# Altium footprint library fszhang.PcbLib: 279 footprints (part 12 of 18)
Each footprint in its own frame and in the unit in brackets; x right, y up, seen from the top. Pads: shape width x height; smd on the part's side, far side on the other; paste and mask are expansions set on the pad; w line width, h text height; cw(c..) or ccw(c..) is an arc to the next point about the centre after c.
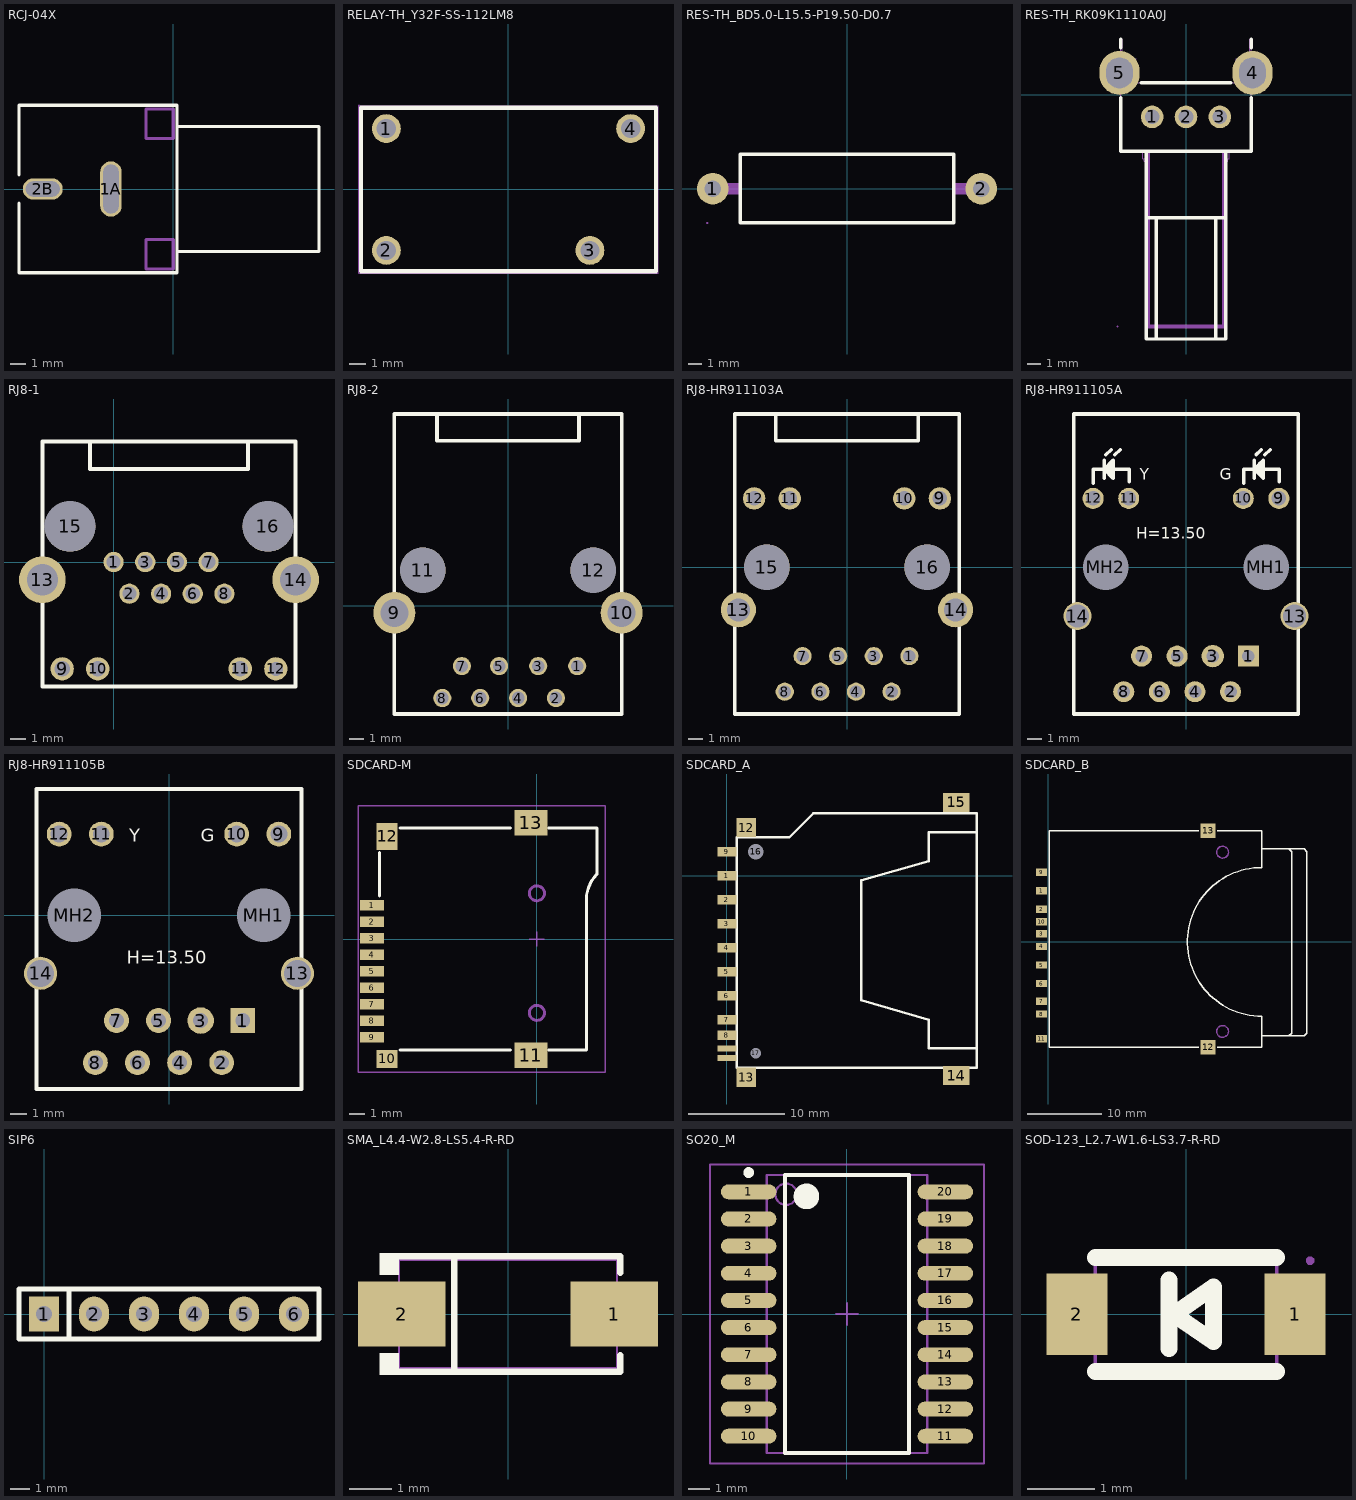
[diagram p11: the footprints below, top view; thin cyan lines are the x and y axes]

## RCJ-04X [mm] "Two Conductor Jack (RCA)"
height 13
pads (2):
  oval 1.4x3.6 hole 1 slot 3.2 at 90 deg: 1A(-4.064,0)
  oval 2.6x1.4 hole 1 slot 2.2 at 0 deg: 2B(-8.509,0)
Top Overlay:
  lines w0.2: -10.057,-0.92 -10.057,-5.461 0.254,-5.461 0.254,5.461 -10.057,5.461 -10.057,0.92 ; 0.254,-4.065 9.5,-4.065 9.5,4.065 0.254,4.065
Mechanical 1:
  lines w0.2: -1.778,-5.207 -1.778,-3.302 0,-3.302 0,-5.207 -1.778,-5.207 ; -1.778,3.302 0,3.302 0,5.207 -1.778,5.207 -1.778,3.302

## RELAY-TH_Y32F-SS-112LM8 [mm]
pads (4):
  round 1.8 hole 1.2 mask+0.051: 1(-7.62,3.8) 2(-7.62,-3.8) 3(5.08,-3.8) 4(7.62,3.8)
Top Overlay:
  lines w0.254: -9.2,-5.1 -9.2,5.1 9.2,5.1 9.2,-5.1 -9.2,-5.1
Mechanical 15:
  region: -9.267,5.227 -9.267,5.252 -9.302,5.287 -9.352,5.287 -9.387,5.252 -9.387,5.227 -9.387,5.202 -9.352,5.167 -9.302,5.167 -9.267,5.202 -9.267,5.227
  region: -7.12,3.8 -7.12,3.899 -7.196,4.083 -7.337,4.224 -7.521,4.3 -7.719,4.3 -7.903,4.224 -8.044,4.083 -8.12,3.899 -8.12,3.8 -8.12,3.701 -8.044,3.517 -7.903,3.376 -7.719,3.3 -7.521,3.3 -7.337,3.376 -7.196,3.517 -7.12,3.701 -7.12,3.8
  region: -7.12,-3.8 -7.12,-3.7 -7.196,-3.517 -7.337,-3.376 -7.521,-3.3 -7.719,-3.3 -7.903,-3.376 -8.044,-3.517 -8.12,-3.7 -8.12,-3.8 -8.12,-3.899 -8.044,-4.083 -7.903,-4.224 -7.719,-4.3 -7.521,-4.3 -7.337,-4.224 -7.196,-4.083 -7.12,-3.899 -7.12,-3.8
  region: 5.58,-3.8 5.58,-3.7 5.504,-3.517 5.363,-3.376 5.179,-3.3 4.981,-3.3 4.797,-3.376 4.656,-3.517 4.58,-3.7 4.58,-3.8 4.58,-3.899 4.656,-4.083 4.797,-4.224 4.981,-4.3 5.179,-4.3 5.363,-4.224 5.504,-4.083 5.58,-3.899 5.58,-3.8
  region: 8.12,3.8 8.12,3.899 8.044,4.083 7.903,4.224 7.719,4.3 7.521,4.3 7.337,4.224 7.196,4.083 7.12,3.899 7.12,3.8 7.12,3.701 7.196,3.517 7.337,3.376 7.521,3.3 7.719,3.3 7.903,3.376 8.044,3.517 8.12,3.701 8.12,3.8
  lines w0.051: -9.327,-5.227 -9.327,5.227 9.327,5.227 9.327,-5.227 -9.327,-5.227

## RES-TH_BD5.0-L15.5-P19.50-D0.7 [mm]
pads (2):
  round 2.3 hole 1.2: 1(-9.75,0) 2(9.75,0)
Top Overlay:
  lines w0.254: -7.75,-2.5 -7.75,2.5 7.75,2.5 7.75,-2.5 -7.75,-2.5
Mechanical 15:
  region: -10.09,-2.5 -10.09,-2.475 -10.125,-2.44 -10.175,-2.44 -10.21,-2.475 -10.21,-2.5 -10.21,-2.525 -10.175,-2.56 -10.125,-2.56 -10.09,-2.525 -10.09,-2.5
  region: 7.64,0.4 7.64,-0.4 10.15,-0.4 10.15,0.4
  region: 10.15,0 10.15,0.08 10.089,0.227 9.977,0.339 9.83,0.4 9.67,0.4 9.523,0.339 9.411,0.227 9.35,0.08 9.35,0 9.35,-0.08 9.411,-0.227 9.523,-0.339 9.67,-0.4 9.83,-0.4 9.977,-0.339 10.089,-0.227 10.15,-0.08 10.15,0
  region: -9.35,0 -9.35,0.08 -9.411,0.227 -9.523,0.339 -9.67,0.4 -9.83,0.4 -9.977,0.339 -10.089,0.227 -10.15,0.08 -10.15,0 -10.15,-0.08 -10.089,-0.227 -9.977,-0.339 -9.83,-0.4 -9.67,-0.4 -9.523,-0.339 -9.411,-0.227 -9.35,-0.08 -9.35,0
  region: -7.64,-0.4 -7.64,0.4 -10.15,0.4 -10.15,-0.4
  lines w0.051: -7.75,-2.5 7.75,-2.5 7.75,2.5 -7.75,2.5 -7.75,-2.5

## RES-TH_RK09K1110A0J [mm]
pads (5):
  round 1.7 hole 1.1: 1(-2.54,-1.65) 2(0,-1.65) 3(2.54,-1.65)
  oval 3x3.3 hole 2 slot 2.3 at 90 deg: 4(5,1.65) 5(-5,1.65)
Top Overlay:
  lines w0.254: -4.9,-4.251 4.084,-4.251 4.9,-4.251 ; -4.9,-4.25 -4.9,-0.228 ; -4.9,3.528 -4.9,4.19 ; -3.376,0.9 3.376,0.9 ; -3,-9.25 3,-9.25 ; -3,-4.25 -3,-18.35 3,-18.35 3,-4.25 ; -2.25,-18.35 -2.25,-9.25 ; 2.25,-18.35 2.25,-9.25 ; 4.9,-4.25 4.9,-0.228 ; 4.9,3.528 4.9,4.2
Mechanical 6:
  region: -2.733,-4.38 -2.733,-17.273 2.743,-17.273 2.743,-4.39 2.743,-4.337 2.817,-4.263 2.923,-4.263 2.997,-4.337 2.997,-4.39 2.997,-17.4 2.997,-17.425 2.978,-17.472 2.942,-17.508 2.895,-17.527 2.87,-17.527 -2.86,-17.527 -2.885,-17.527 -2.932,-17.508 -2.968,-17.472 -2.987,-17.425 -2.987,-17.4 -2.987,-4.38 -2.987,-4.327 -2.913,-4.253 -2.807,-4.253 -2.733,-4.327 -2.733,-4.38
Mechanical 15:
  region: 4.85,2.65 5.15,2.65 5.15,0.65 4.85,0.65
  region: -5.15,2.65 -4.85,2.65 -4.85,0.65 -5.15,0.65
  region: -2.94,-1.5 -2.14,-1.5 -2.14,-1.8 -2.94,-1.8
  region: -0.4,-1.5 0.4,-1.5 0.4,-1.8 -0.4,-1.8
  region: 2.14,-1.5 2.94,-1.5 2.94,-1.8 2.14,-1.8
  region: -5.09,-17.4 -5.09,-17.375 -5.125,-17.34 -5.175,-17.34 -5.21,-17.375 -5.21,-17.4 -5.21,-17.425 -5.175,-17.46 -5.125,-17.46 -5.09,-17.425 -5.09,-17.4
  lines w0.051: -4.9,-4.2 -3.25,-4.2 -3.25,-4.8 -3.15,-4.8 -3.15,-5 -3,-5 -2.99,-17.4 3,-17.4 3,-5 3.15,-5 3.15,-4.8 3.25,-4.8 3.25,-4.2 4.9,-4.2 4.9,4.2 4.8,4.2 4.8,2.7 3.76,2.7 3.76,1.9 3.76,0.9 -3.76,0.9 -3.76,2.69 -3.77,2.7 -4.8,2.7 -4.8,4.2 -4.9,4.2 -4.9,-4.2

## RJ8-1 [mm] "网络"
pads (16):
  round 1.3 hole 0.9: 1(0,0) 2(1.016,-2.032) 3(2.032,0) 4(3.048,-2.032) 5(4.064,0) 6(5.08,-2.032) 7(6.096,0) 8(7.112,-2.032)
  round 1.5 hole 1: 9(-3.302,-6.858) 10(-1.016,-6.858) 11(8.128,-6.858)
  round 1.5 hole 0.9: 12(10.414,-6.858)
  round 3 hole 2: 13(-4.572,-1.143) 14(11.684,-1.143)
  round 3.251 hole 3.251: 15(-2.794,2.286) 16(9.906,2.286)
Top Overlay:
  lines w0.254: -1.524,7.747 -1.524,5.969 8.636,5.969 8.636,7.747 ; -4.572,-8.001 -4.572,-1.143 -4.572,7.747 11.684,7.747 11.684,-1.143 11.684,-8.001 -4.572,-8.001

## RJ8-2 [mm] "网络"
height 10
pads (12):
  round 1.3 hole 0.9: 1(4.953,-4.318) 2(3.429,-6.604) 3(2.159,-4.318) 4(0.72,-6.604) 5(-0.635,-4.318) 6(-1.99,-6.604) 7(-3.302,-4.318) 8(-4.699,-6.604)
  round 3 hole 2: 9(-8.128,-0.508) 10(8.128,-0.508)
  round 3.251 hole 3.251: 11(-6.096,2.54) 12(6.096,2.54)
Top Overlay:
  lines w0.254: -5.08,13.589 -5.08,11.811 5.08,11.811 5.08,13.589 ; -8.128,-7.747 -8.128,-0.889 -8.128,13.716 8.128,13.716 8.128,-0.889 8.128,-7.747 -8.128,-7.747

## RJ8-HR911103A [mm] "网络"
height 10
pads (16):
  round 1.3 hole 0.9: 1(4.45,-6.35) 2(3.18,-8.89) 3(1.91,-6.35) 4(0.64,-8.89) 5(-0.63,-6.35) 6(-1.9,-8.89) 7(-3.17,-6.35) 8(-4.44,-8.89)
  round 1.6 hole 1.02: 9(6.625,4.9) 10(4.085,4.9) 11(-4.085,4.9) 12(-6.625,4.9)
  round 2.5 hole 1.63: 13(-7.745,-3.05) 14(7.745,-3.05)
  round 3.251 hole 3.251: 15(-5.715,0) 16(5.715,0)
Top Overlay:
  lines w0.254: -5.08,10.795 -5.08,9.017 5.08,9.017 5.08,10.795 ; -8,-10.48 8,-10.48 8,10.92 -8,10.92 -8,-10.48

## RJ8-HR911105A [mm]
height 14.8
pads (16):
  rect 1.5x1.5 hole 0.9: 1(4.45,-6.35)
  round 1.5 hole 0.9: 2(3.18,-8.89) 4(0.64,-8.89) 5(-0.63,-6.35) 6(-1.9,-8.89) 7(-3.17,-6.35) 8(-4.44,-8.89)
  round 1.6 hole 0.9: 3(1.91,-6.35)
  round 1.5 hole 1.02: 9(6.625,4.9) 10(4.085,4.9) 11(-4.085,4.9) 12(-6.625,4.9)
  round 2 hole 1.63: 13(7.745,-3.5) 14(-7.745,-3.5)
  round 2.95 hole 3.25 unplated: MH1(5.715,0) MH2(-5.715,0)
Top Overlay:
  lines w0.25: -6.604,5.969 -6.604,6.985 -4.064,6.985 -4.064,6.096 ; -5.842,6.35 -5.842,7.62 ; -5.715,8.001 -5.334,8.382 ; -5.434,6.592 -5.434,7.393 ; -5.08,8.001 -4.699,8.382 ; 4.106,5.969 4.106,6.985 6.646,6.985 6.646,6.096 ; 4.868,6.35 4.868,7.62 ; 4.995,8.001 5.376,8.382 ; 5.276,6.592 5.276,7.393 ; 5.63,8.001 6.011,8.382 ; -8,-10.48 -8,10.92 8,10.92 8,-10.48 -8,-10.48 ; -5.842,6.985 -5.207,7.62 -5.207,6.35 -5.842,6.985 ; 4.868,6.985 5.503,7.62 5.503,6.35 4.868,6.985
  text "G" at 2.413,6.223 h0.8
  text "Y" at -3.302,6.223 h0.8
  text "H=13.50" at -3.556,2.032 h0.8

## RJ8-HR911105B [mm]
height 14.8
pads (16):
  rect 1.5x1.5 hole 0.9: 1(4.45,-6.35)
  round 1.5 hole 0.9: 2(3.18,-8.89) 4(0.64,-8.89) 5(-0.63,-6.35) 6(-1.9,-8.89) 7(-3.17,-6.35) 8(-4.44,-8.89)
  round 1.6 hole 0.9: 3(1.91,-6.35)
  round 1.5 hole 1.02: 9(6.625,4.9) 10(4.085,4.9) 11(-4.085,4.9) 12(-6.625,4.9)
  round 2 hole 1.63: 13(7.745,-3.5) 14(-7.745,-3.5)
  round 2.95 hole 3.25 unplated: MH1(5.715,0) MH2(-5.715,0)
Top Overlay:
  lines w0.25: -8,-10.48 8,-10.48 8,7.62 -8,7.62 -8,-10.48
  text "H=13.50" at -2.54,-2.921 h0.8
  text "Y" at -2.413,4.445 h0.8
  text "G" at 1.905,4.445 h0.8

## SDCARD-M [mm] "TF卡"
height 1.5
pads (13):
  rect 1.6x0.7 smd: 1(-11.008,2.25) 2(-11.008,1.15) 3(-11.008,0.05) 4(-11.008,-1.05) 5(-11.008,-2.15) 6(-11.008,-3.25) 7(-11.008,-4.35) 8(-11.008,-5.45) 9(-11.008,-6.55)
  rect 1.4x1.2 smd: 10(-10,-8.004)
  rect 2.2x1.7 smd: 11(-0.4,-7.75) 13(-0.4,7.75)
  rect 1.4x1.8 smd: 12(-10,6.85)
Top Overlay:
  lines w0.2: -10.5,2.88 -10.5,5.756 ; -9.144,-7.4 -1.778,-7.4 ; -9.144,7.4 -1.778,7.4 ; 0.762,-7.4 3.3,-7.4 3.3,1.016 ; 0.762,7.4 4,7.4 4,4.318 ccw(c5.69,2.628) 3.3,2.628 3.3,0.762
Mechanical 1:
  circle w0.2: c0,3.05 r0.5
  circle w0.2: c0,-4.93 r0.5
Mechanical 15:
  lines w0.1: -0.5,0 0.5,0 ; 0,-0.5 0,0.5 ; -11.938,-8.89 -11.938,8.89 4.572,8.89 4.572,-8.89 -11.938,-8.89

## SDCARD_A [mm] "SD卡不自弹"
pads (17):
  rect 2x1 smd: 1(0,0) 2(0,-2.5) 3(0,-5) 4(0,-7.5) 5(0,-10) 6(0,-12.5) 7(0,-15) 8(0,-16.625) 9(0,2.5)
  rect 2x0.6 smd: 10(0,-19) 11(0,-18)
  rect 2x2 smd: 12(2,5) 13(2,-21)
  rect 2.8x2 smd: 14(23.876,-20.828) 15(23.876,7.62)
  round 1.5 hole 1.6: 16(3,2.5)
  round 1 hole 1.1: 17(3,-18.5)
Top Overlay:
  lines w0.254: 26,-18 21,-18 21,-15 14,-13 14,-0.5 21,1.5 21,4.5 26,4.5 ; 1,-20 26,-20 26,6.5 9,6.5 6.5,4 1,4 1,-20

## SDCARD_B [mm] "SD卡自弹"
pads (13):
  rect 1.5x1 smd: 1(-0.889,6.88) 2(-0.889,4.38) 3(-0.889,1.08) 4(-0.889,-0.63) 5(-0.889,-3.13) 6(-0.889,-5.63) 7(-0.889,-8.05) 8(-0.889,-9.75) 9(-0.889,9.38) 10(-0.889,2.73) 11(-0.889,-13.1)
  rect 2x2 smd: 12(21.59,-14.224) 13(21.59,14.986)
Top Overlay:
  lines w0.2: 20.32,-14.224 0.127,-14.224 0.127,0 0.127,14.986 20.32,14.986 ; 22.86,-14.224 28.829,-14.224 28.829,-10.033 cw(c28.829,0) 28.829,10.033 28.829,14.986 22.86,14.986 ; 28.829,-12.7 32.893,-12.7 34.544,-12.7 34.925,-12.319 34.925,12.192 34.544,12.573 32.893,12.573 28.829,12.573 ; 32.512,-12.7 32.893,-12.319 32.893,12.192 32.512,12.573
Mechanical 1:
  circle w0.2: c23.55,-12.1 r0.8
  circle w0.2: c23.55,12.1 r0.8

## SIP6 [mil]
pads (6):
  rect 60x70 hole 32: 1(0,0)
  oval 60x70 hole 32: 2(100,0) 3(200,0) 4(300,0) 5(400,0) 6(500,0)
Top Overlay:
  lines w10: 50,-50 50,50 ; -50,-50 550,-50 550,50 -50,50 -50,-50

## SMA_L4.4-W2.8-LS5.4-R-RD [mm]
pads (2):
  rect 2.063x1.539 smd: 1(2.504,0) 2(-2.504,0)
Top Overlay:
  region: -2.57,-1.432 -2.57,-0.922 -3.027,-0.922 -3.027,-1.432
  region: -2.57,1.432 -2.57,0.922 -3.027,0.922 -3.027,1.432
  lines w0.152: -2.646,-1.356 2.646,-1.356 2.646,-0.973 ; -2.646,1.356 2.646,1.356 2.646,0.973 ; -1.269,-1.356 -1.269,1.356
Mechanical 6:
  region: 2.09,-0.64 2.09,0.64 1.898,0.64 1.898,-0.64
  region: 2.378,-0.096 2.378,0.096 1.61,0.096 1.61,-0.096
  region: -2.378,-0.096 -2.378,0.096 -1.61,0.096 -1.61,-0.096
Mechanical 15:
  region: 2.8,-0.712 2.8,0.712 1.645,0.712 1.645,-0.712
  region: -2.8,-0.712 -2.8,0.712 -1.645,0.712 -1.645,-0.712
  region: -2.74,-1.28 -2.74,-1.255 -2.775,-1.22 -2.825,-1.22 -2.86,-1.255 -2.86,-1.28 -2.86,-1.305 -2.825,-1.34 -2.775,-1.34 -2.74,-1.305 -2.74,-1.28
  lines w0.051: -2.57,-1.28 2.57,-1.28 2.57,1.28 -2.57,1.28 -2.57,-1.28

## SO20_M [mm] "SOIC, 20-Leads, Body 12.8x7.5mm, Pitch 1.27mm, IPC Low Density"
height 2.65
pads (20):
  oval 2.6x0.7 smd: 1(-4.6,5.715) 2(-4.6,4.445) 3(-4.6,3.175) 4(-4.6,1.905) 5(-4.6,0.635) 6(-4.6,-0.635) 7(-4.6,-1.905) 8(-4.6,-3.175) 9(-4.6,-4.445) 10(-4.6,-5.715) 11(4.6,-5.715) 12(4.6,-4.445) 13(4.6,-3.175) 14(4.6,-1.905) 15(4.6,-0.635) 16(4.6,0.635) 17(4.6,1.905) 18(4.6,3.175) 19(4.6,4.445) 20(4.6,5.715)
Top Overlay:
  circle w0.25: c-4.6,6.615 r0.125
  circle w0.6: c-1.9,5.5 r0.3
  lines w0.2: -2.9,-6.5 -2.9,6.5 2.9,6.5 2.9,-6.5 -2.9,-6.5
Mechanical 13:
  circle w0.1: c-2.85,5.6 r0.5
  lines w0.1: -3.75,-6.5 -3.75,6.5 3.75,6.5 3.75,-6.5 -3.75,-6.5
Mechanical 15:
  lines w0.1: -0.5,0 0.5,0 ; 0,-0.5 0,0.5 ; -6.4,-7 -6.4,7 6.4,7 6.4,-7 -6.4,-7
3D body: height 2.65, standoff 0, extent -3.75,-6.5 3.75,6.5

## SOD-123_L2.7-W1.6-LS3.7-R-RD [mil]
pads (2):
  rect 35.8x48 smd: 1(64,0) 2(-64,0)
Top Overlay:
  lines w10: -53,-33.47 53,-33.47 ; -53,33.47 53,33.47 ; -10,-20 -10,20 ; -7,0 16,-16 16,16 -7,0
Mechanical 6:
  region: -80.38,4.87 -47.23,4.87 -47.23,-3.27 -80.4,-3.27
  region: 60.02,-13.32 60.02,19.82 68.17,19.82 68.17,-13.35
  region: 46.85,8.35 80,8.35 80,0.2 46.82,0.2
Mechanical 15:
  region: 59.05,-10.83 59.05,10.83 72.83,10.83 72.83,-10.83
  region: 52.76,-10.83 52.76,10.83 59.45,10.83 59.45,-10.83
  region: -72.83,-10.83 -72.83,10.83 -59.05,10.83 -59.05,-10.83
  region: -59.45,-10.83 -59.45,10.83 -52.76,10.83 -52.76,-10.83
  region: 75.2,31.5 75.2,32.47 73.81,33.86 71.86,33.86 70.47,32.47 70.47,31.5 70.47,30.52 71.86,29.13 73.81,29.13 75.2,30.52 75.2,31.5
  lines w2: -53.15,-31.5 53.15,-31.5 53.15,31.5 -53.15,31.5 -53.15,-31.5